# Altium schematic symbol library Components - ldo 3.3 ams1117.SchLib: 1 symbol
Pins are listed as number, name and electrical type; pins without a type are passive.

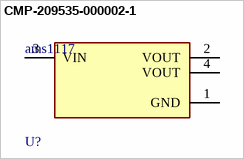
[diagram p0: symbol CMP-209535-000002-1]

## CMP-209535-000002-1
designator U?, comment ams1117
1A LOW DROPOUT VOLTAGE REGULATOR; RoHS Compliant: Yes
footprint FP-ams1117-IPC_C
footprint FP-ams1117-IPC_B
footprint FP-ams1117-IPC_A
pins: 1 GND, 2 VOUT, 3 VIN (power), 4 VOUT